# Altium footprint library NEO-M9N-00B.PcbLib: 1 footprints
Each footprint in its own frame and in the unit in brackets; x right, y up, seen from the top. Pads: shape width x height; smd on the part's side, far side on the other; paste and mask are expansions set on the pad; w line width, h text height; cw(c..) or ccw(c..) is an arc to the next point about the centre after c.
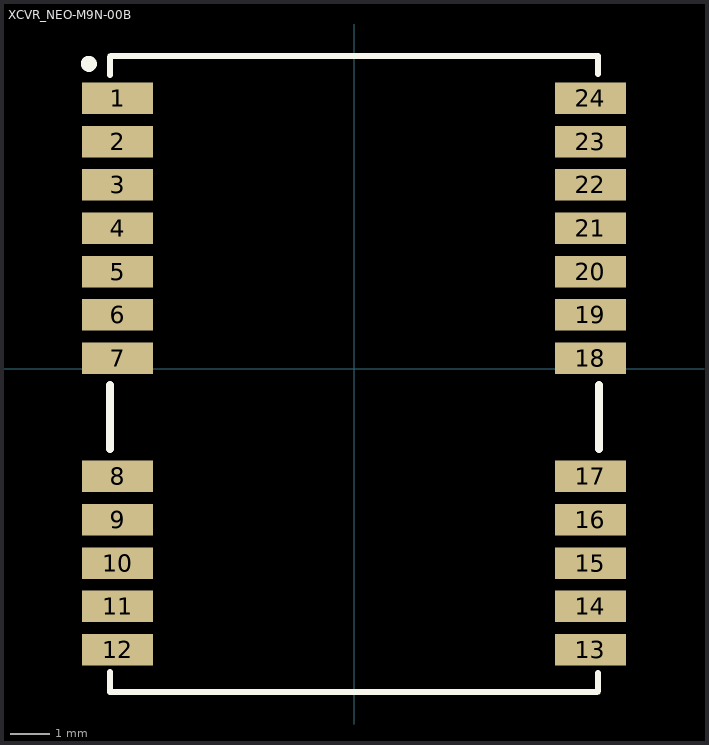
[diagram p0: the footprint, top view; thin cyan lines are the x and y axes]

## XCVR_NEO-M9N-00B [mm]
height 2.6
pads (24):
  rect 1.8x0.8 smd: 1(-6,6.873) 2(-6,5.773) 3(-6,4.673) 4(-6,3.573) 5(-6,2.473) 6(-6,1.373) 7(-6,0.273) 8(-6,-2.727) 9(-6,-3.827) 10(-6,-4.927) 11(-6,-6.027) 12(-6,-7.127) 13(6,-7.127) 14(6,-6.027) 15(6,-4.927) 16(6,-3.827) 17(6,-2.727) 18(6,0.273) 19(6,1.373) 20(6,2.473) 21(6,3.573) 22(6,4.673) 23(6,5.773) 24(6,6.873)
Top Overlay:
  circle w0.254: c-6.731,7.747 r0.076
  lines w0.152: -6.198,-7.696 -6.198,-8.204 6.172,-8.204 6.198,-8.179 6.198,-7.722 ; -6.198,7.468 -6.198,7.925 -6.172,7.95 -5.537,7.95 6.198,7.95 6.198,7.493
  lines w0.2: -6.198,-2.032 -6.198,-0.406 ; 6.218,-2.033 6.218,-0.407
3D body "NEO.STEP": height 2.31, standoff -0.02, extent -6.1,-8.128 6.1,7.872